# Altium schematic symbol library DAQ.SchLib: 78 symbols (part 3 of 3)
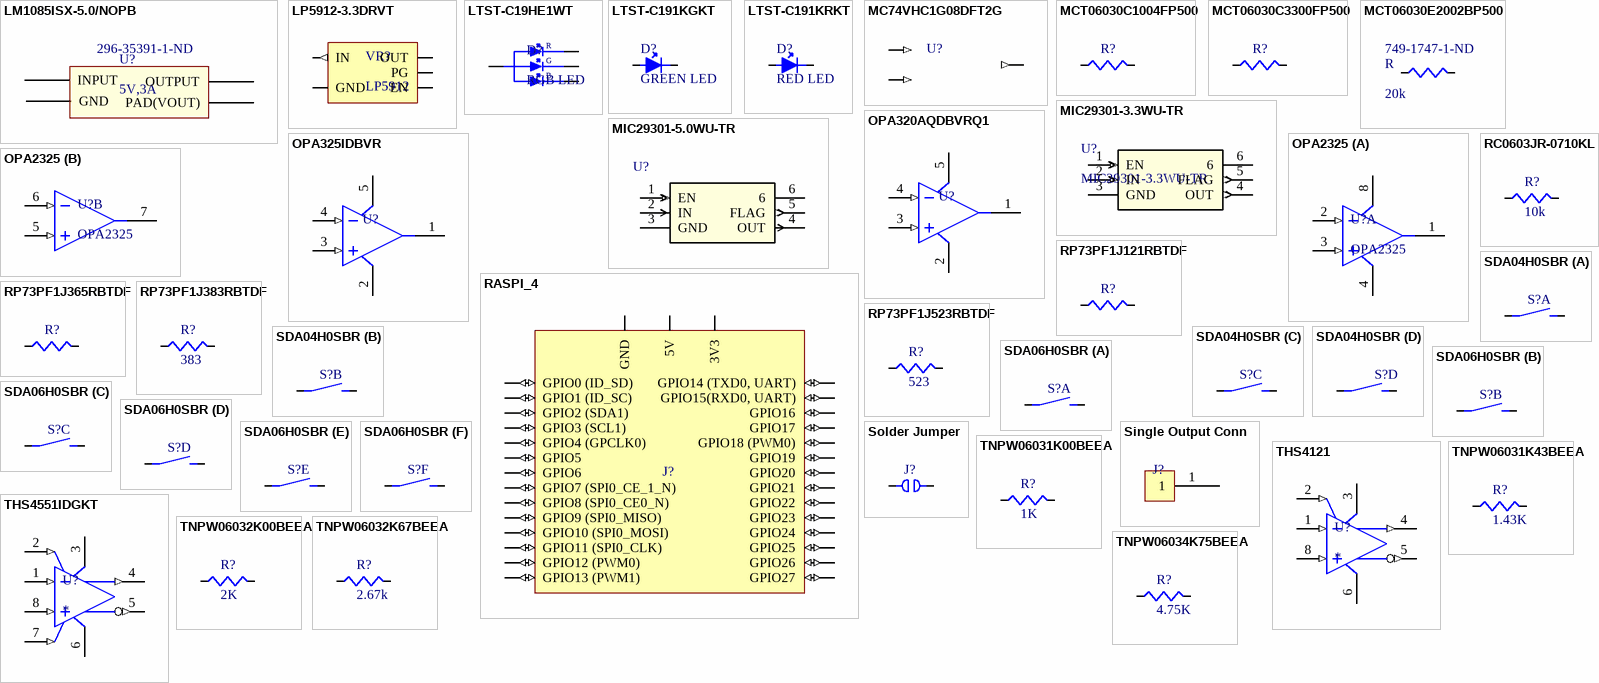
[diagram p4: symbols LM1085ISX-5.0/NOPB to TNPW06034K75BEEA]

## SDA04H0SBR
designator S?, comment DIP4  (value not drawn)
SWITCH DIP TAPE SEALED 4POS 24V; Manufacturer 1: ITT C&K; Manufacturer Part Number 1: SDA04H0SBR; Body Material: Polyphenylene; Mechanical Life: 1000Cycles; Actuator Material: Polyamide; Throw Configuration: SPST; Number of Positions: 4; Current Rating: 25mA; Max Current Rating: 100mA; Contact Resistance: 50mR; Actuator Type: Slide (Standard); Pitch: 0.1inch; Actuator Length: 0mm; Washable: Yes; Supplier 1: Digi-Key; Supplier Part Number 1: CKN9493CT-ND; Stock 1: 868; Pricing 1: 1=2.05000, 10=1.93600, 25=1.85680, 50=1.73820, 100=1.69880, 250=1.50124 (USD); RoHS: Yes; Mount: Surface Mount; Contact Material: Copper; Contact Plating: Gold; Min Operating Temperature: -40°C; Max Operating Temperature: 85°C; Max Voltage Rating (DC): 24V; Termination: Gull Wing; Package Quantity: 1; Packaging: Tape and Reel; Voltage Rating (DC): 24V; Electrical Life: 1000Cycles; Number of Circuits: 4; Orientation: Straight; Length: 0.476inch; Terminal Pitch: 2.54mm; Depth: 9.3mm; Radiation Hardening: No; REACH SVHC: No SVHC; Lead Free: Lead Free; ComponentLink1URL: https://datasheet.ciiva.com/2863/sda-17mar15-2863556.pdf?src-supplier=Digi-Key; ComponentLink1Description: https://datasheet.ciiva.com/2863/sda-17mar15-2863556.pdf?src-supplier=Digi-Key; ComponentLink2URL: https://datasheet.ciiva.com/2863/sda-17mar15-2863557.pdf?src-supplier=Digi-Key; ComponentLink2Description: https://datasheet.ciiva.com/2863/sda-17mar15-2863557.pdf?src-supplier=Digi-Key; ComponentLink3URL: https://datasheet.ciiva.com/2863/sda-17mar15-2863558.pdf?src-supplier=Digi-Key; ComponentLink3Description: https://datasheet.ciiva.com/2863/sda-17mar15-2863558.pdf?src-supplier=Digi-Key; ComponentLink4URL: https://datasheet.ciiva.com/22630/1707734-22630650.pdf?src-supplier=Element14; ComponentLink4Description: https://datasheet.ciiva.com/22630/1707734-22630650.pdf?src-supplier=Element14; ComponentLink5URL: https://datasheet.ciiva.com/16200/sda-13may-16200990.pdf?src-supplier=Onlinecomponents.com; ComponentLink5Description: https://datasheet.ciiva.com/16200/sda-13may-16200990.pdf?src-supplier=Onlinecomponents.com
footprint SDA04H0SB_dip_switch
part A pins: 1, 8
part B pins: 2, 7
part C pins: 3, 6
part D pins: 4, 5

## SDA06H0SBR
designator S?, comment DIP6  (value not drawn)
SWITCH DIP TAPE SEALED 6POS 24V; Manufacturer 1: ITT C&K; Manufacturer Part Number 1: SDA06H0SBR; Body Material: Polyphenylene; Mechanical Life: 1000Cycles; Actuator Material: Polyamide; Current Rating: 25mA; Throw Configuration: SPST; Max Current Rating: 100mA; Max Voltage Rating (DC): 50V; Contact Resistance: 50mR; Number of Positions: 6; Actuator Type: Slide (Standard); Pitch: 0.1inch; Actuator Length: 0mm; Washable: Yes; Supplier 1: Digi-Key; Supplier Part Number 1: CKN9495CT-ND; Stock 1: 4446; Pricing 1: 1=2.15000, 10=2.08600, 25=1.97880, 50=1.84960, 100=1.80670, 250=1.54856 (USD); RoHS: Yes; Mount: Surface Mount; Contact Material: Copper; Contact Plating: Gold; Min Operating Temperature: -40°C; Max Operating Temperature: 85°C; Packaging: Tape and Reel; Package Quantity: 1; Voltage Rating (DC): 24V; Termination: Gull Wing; Electrical Life: 1000Cycles; Life (Cycles): 1000Cycles; Orientation: Straight; Length: 0.676inch; Terminal Pitch: 2.54mm; Depth: 9.3mm; Radiation Hardening: No; Lead Free: Lead Free; ComponentLink1URL: https://datasheet.ciiva.com/2863/sda-17mar15-2863587.pdf?src-supplier=Digi-Key; ComponentLink1Description: https://datasheet.ciiva.com/2863/sda-17mar15-2863587.pdf?src-supplier=Digi-Key; ComponentLink2URL: https://datasheet.ciiva.com/2863/sda-17mar15-2863588.pdf?src-supplier=Digi-Key; ComponentLink2Description: https://datasheet.ciiva.com/2863/sda-17mar15-2863588.pdf?src-supplier=Digi-Key; ComponentLink3URL: https://datasheet.ciiva.com/2863/sda-17mar15-2863589.pdf?src-supplier=Digi-Key; ComponentLink3Description: https://datasheet.ciiva.com/2863/sda-17mar15-2863589.pdf?src-supplier=Digi-Key; ComponentLink4URL: https://datasheet.ciiva.com/16485/sda06h0sbr-16485446.pdf?src-supplier=Future+Electronics; ComponentLink4Description: https://datasheet.ciiva.com/16485/sda06h0sbr-16485446.pdf?src-supplier=Future+Electronics; ComponentLink5URL: https://datasheet.ciiva.com/16200/sda-13may-16200985.pdf?src-supplier=Onlinecomponents.com; ComponentLink5Description: https://datasheet.ciiva.com/16200/sda-13may-16200985.pdf?src-supplier=Onlinecomponents.com; ComponentLink6URL: https://datasheet.ciiva.com/18150/getdatasheetpartid-712276-18150955.pdf?src-supplier=Verical; ComponentLink6Description: https://datasheet.ciiva.com/18150/getdatasheetpartid-712276-18150955.pdf?src-supplier=Verical
part A pins: 1, 2
part B pins: 3, 4
part C pins: 5, 6
part D pins: 7, 8
part E pins: 9, 10
part F pins: 11, 12

## Single Output Conn
designator J?  (value not drawn)
footprint HEADERPINS_1x1
pins: 1

## Solder Jumper
designator J?  (value not drawn)
Simple Jumper
footprint SolderJumper
pins: 1, 2

## THS4121
designator U?
IC OPAMP DIFF 1 CIRCUIT 8MSOP; Manufacturer 1: Texas Instruments; Manufacturer Part Number 1: THS4121IDGNR; Number of Channels: 1; Slew Rate: 220V/µs; -3db Bandwidth: 150MHz; Output Current per Channel: 65mA; Gain Bandwidth Product: 135MHz; Input Bias Current: 1uA; Input Offset Voltage (Vos): 50uV; Operating Supply Current: 1.35mA; Max I/O Voltage: 8mV; Max Supply Voltage: 3.5V; Min Supply Voltage: 3V; Voltage Gain: 66dB; Power Supply Rejection Ratio (PSRR): 68dB; Power Dissipation: 1.71W; Common Mode Rejection Ratio: 64dB; Max Input Voltage: -100mV; Nominal Supply Current: 13.5mA; Input Resistance: 820MR; Operating Supply Voltage: 3.3V; Dual Supply Voltage: 1.65V; Min Dual Supply Voltage: 1.5V; Max Dual Supply Voltage: 1.75V; Settling Time: 60ns; Mount: Surface Mount; Case/Package: VSSOP; Number of Pins: 8; Min Operating Temperature: -40°C; Max Operating Temperature: 125°C; Packaging: Cut Tape; Number of Circuits: 1; Number of Amplifiers: 1; Bandwidth: 135MHz; REACH SVHC: No SVHC; Lead Free: Lead Free; ComponentLink1URL: http://www.ti.com/lit/ds/symlink/ths4551.pdf?src-supplier=Digi-Key; ComponentLink1Description: http://www.ti.com/lit/ds/symlink/ths4551.pdf?src-supplier=Digi-Key; ComponentLink2URL: http://www.ti.com/general/docs/lit/getliterature.tsp?genericPartNumber=THS4551&fileType=pdf&src-supplier=Farnell; ComponentLink2Description: http://www.ti.com/general/docs/lit/getliterature.tsp?genericPartNumber=THS4551&fileType=pdf&src-supplier=Farnell; ComponentLink3URL: http://www.farnell.com/datasheets/2148327.pdf?src-supplier=Element14; ComponentLink3Description: http://www.farnell.com/datasheets/2148327.pdf?src-supplier=Element14; ComponentLink4URL: https://octopart.com/click/track?ai=2118&ct=datasheets&sig=0013830&at=physicalpart&sid=370&ppid=71776714&hlid=24961842&src-supplier=TI+store; ComponentLink4Description: https://octopart.com/click/track?ai=2118&ct=datasheets&sig=0013830&at=physicalpart&sid=370&ppid=71776714&hlid=24961842&src-supplier=TI+store; ComponentLink5URL: http://sigma.octopart.com/49250154/technical_drawing/Texas-Instruments-THS4551IDGKT.pdf?src-supplier=TI+store; ComponentLink5Description: http://sigma.octopart.com/49250154/technical_drawing/Texas-Instruments-THS4551IDGKT.pdf?src-supplier=TI+store; ComponentLink6URL: http://datasheet.octopart.com/THS4551IDGKT-Texas-Instruments-datasheet-78835010.pdf?src-supplier=Element14; ComponentLink6Description: http://datasheet.octopart.com/THS4551IDGKT-Texas-Instruments-datasheet-78835010.pdf?src-supplier=Element14; ComponentLink7URL: http://datasheet.octopart.com/THS4551IDGKT-Texas-Instruments-datasheet-67294894.pdf?src-supplier=Newark; ComponentLink7Description: http://datasheet.octopart.com/THS4551IDGKT-Texas-Instruments-datasheet-67294894.pdf?src-supplier=Newark; RoHS: No; ComponentLink8URL: https://www.te.com/commerce/DocumentDelivery/DDEController?Action=srchrtrv&DocNm=1773204-3&DocType=DS&DocLang=English&src-supplier=Digi-Key; ComponentLink8Description: https://www.te.com/commerce/DocumentDelivery/DDEController?Action=srchrtrv&DocNm=1773204-3&DocType=DS&DocLang=English&src-supplier=Digi-Key; ComponentLink9URL: https://www.te.com/commerce/DocumentDelivery/DDEController?Action=srchrtrv&amp;DocNm=1773204-3&amp;DocType=DS&amp;DocLang=English&src-supplier=Digi-Key; ComponentLink9Description: https://www.te.com/commerce/DocumentDelivery/DDEController?Action=srchrtrv&amp;DocNm=1773204-3&amp;DocType=DS&amp;DocLang=English&src-supplier=Digi-Key; Supplier 1: Digi-Key; Supplier Part Number 1: 296-13343-1-ND; Stock 1: 1273; Pricing 1: 1=5.39000, 10=4.83900, 25=4.57440, 100=3.76110, 250=3.37480, 500=3.25280, 1000=2.70389 (USD); Weight: 0.000861oz; Number of Elements: 1; Max Power Dissipation: 1.71W; Package Quantity: 1; Radiation Hardening: No; ComponentLink10URL: https://datasheet.ciiva.com/15128/getdatasheetpartid-115582-15128262.pdf?src-supplier=Verical; ComponentLink10Description: https://datasheet.ciiva.com/15128/getdatasheetpartid-115582-15128262.pdf?src-supplier=Verical; ComponentLink11URL: https://datasheet.ciiva.com/26847/ths4121idgnr-26847456.pdf?src-supplier=IIIC; ComponentLink11Description: https://datasheet.ciiva.com/26847/ths4121idgnr-26847456.pdf?src-supplier=IIIC; ComponentLink12URL: https://datasheet.ciiva.com/1800/ths4121-1800147.pdf?src-supplier=Digi-Key; ComponentLink12Description: https://datasheet.ciiva.com/1800/ths4121-1800147.pdf?src-supplier=Digi-Key; ComponentLink13URL: https://datasheet.ciiva.com/1800/ths4121-1800148.pdf?src-supplier=Digi-Key; ComponentLink13Description: https://datasheet.ciiva.com/1800/ths4121-1800148.pdf?src-supplier=Digi-Key; ComponentLink14URL: https://datasheet.ciiva.com/1800/ths4121-1800149.pdf?src-supplier=Digi-Key; ComponentLink14Description: https://datasheet.ciiva.com/1800/ths4121-1800149.pdf?src-supplier=Digi-Key; ComponentLink15URL: https://datasheet.ciiva.com/2976/ths4120-2976327.pdf?src-supplier=Avnet; ComponentLink15Description: https://datasheet.ciiva.com/2976/ths4120-2976327.pdf?src-supplier=Avnet
footprint DGN8_1P89X1P57-L
pins: 1 VIN- (in) "Inverting amplifier input", 2 VOCM (in) "Common-mode voltage input", 3 VS+ (power) "Amplifier positive power-supply input", 4 VOUT+ (out) "Noninverting amplifier output", 5 VOUT- (out) "Inverting amplifier output", 6 VS- (power) "Amplifier negative power-supply input. Note that VS- is tied together on multi-channel devices.", 8 VIN+ (in) "Noninverting amplifier input"

## THS4551IDGKT
designator U?
Low Noise, Precision, 150MHz, Fully Differential Amplifier 8-VSSOP -40 to 125; Manufacturer 1: Texas Instruments; Manufacturer Part Number 1: THS4551IDGKT; Number of Channels: 1; Slew Rate: 220V/µs; Output Current per Channel: 65mA; Gain Bandwidth Product: 135MHz; Input Bias Current: 1uA; Input Offset Voltage (Vos): 50uV; Operating Supply Current: 1.35mA; Supplier 1: Digi-Key; Supplier Part Number 1: 296-44771-1-ND; Stock 1: 3028; Pricing 1: 1=3.84000, 10=3.44900, 100=2.82600 (USD); Mount: Surface Mount; Case/Package: VSSOP; Number of Pins: 8; Min Operating Temperature: -40°C; Max Operating Temperature: 125°C; -3db Bandwidth: 150MHz; Packaging: Cut Tape; Number of Circuits: 1; Number of Amplifiers: 1; Bandwidth: 135MHz; REACH SVHC: No SVHC; Lead Free: Lead Free; ComponentLink1URL: http://www.ti.com/lit/ds/symlink/ths4551.pdf?src-supplier=Digi-Key; ComponentLink1Description: http://www.ti.com/lit/ds/symlink/ths4551.pdf?src-supplier=Digi-Key; ComponentLink2URL: http://www.ti.com/general/docs/lit/getliterature.tsp?genericPartNumber=THS4551&fileType=pdf&src-supplier=Farnell; ComponentLink2Description: http://www.ti.com/general/docs/lit/getliterature.tsp?genericPartNumber=THS4551&fileType=pdf&src-supplier=Farnell; ComponentLink3URL: http://www.farnell.com/datasheets/2148327.pdf?src-supplier=Element14; ComponentLink3Description: http://www.farnell.com/datasheets/2148327.pdf?src-supplier=Element14; ComponentLink4URL: https://octopart.com/click/track?ai=2118&ct=datasheets&sig=0013830&at=physicalpart&sid=370&ppid=71776714&hlid=24961842&src-supplier=TI+store; ComponentLink4Description: https://octopart.com/click/track?ai=2118&ct=datasheets&sig=0013830&at=physicalpart&sid=370&ppid=71776714&hlid=24961842&src-supplier=TI+store; ComponentLink5URL: http://sigma.octopart.com/49250154/technical_drawing/Texas-Instruments-THS4551IDGKT.pdf?src-supplier=TI+store; ComponentLink5Description: http://sigma.octopart.com/49250154/technical_drawing/Texas-Instruments-THS4551IDGKT.pdf?src-supplier=TI+store; ComponentLink6URL: http://datasheet.octopart.com/THS4551IDGKT-Texas-Instruments-datasheet-78835010.pdf?src-supplier=Element14; ComponentLink6Description: http://datasheet.octopart.com/THS4551IDGKT-Texas-Instruments-datasheet-78835010.pdf?src-supplier=Element14; ComponentLink7URL: http://datasheet.octopart.com/THS4551IDGKT-Texas-Instruments-datasheet-67294894.pdf?src-supplier=Newark; ComponentLink7Description: http://datasheet.octopart.com/THS4551IDGKT-Texas-Instruments-datasheet-67294894.pdf?src-supplier=Newark; RoHS: No; ComponentLink8URL: https://www.te.com/commerce/DocumentDelivery/DDEController?Action=srchrtrv&DocNm=1773204-3&DocType=DS&DocLang=English&src-supplier=Digi-Key; ComponentLink8Description: https://www.te.com/commerce/DocumentDelivery/DDEController?Action=srchrtrv&DocNm=1773204-3&DocType=DS&DocLang=English&src-supplier=Digi-Key; ComponentLink9URL: https://www.te.com/commerce/DocumentDelivery/DDEController?Action=srchrtrv&amp;DocNm=1773204-3&amp;DocType=DS&amp;DocLang=English&src-supplier=Digi-Key; ComponentLink9Description: https://www.te.com/commerce/DocumentDelivery/DDEController?Action=srchrtrv&amp;DocNm=1773204-3&amp;DocType=DS&amp;DocLang=English&src-supplier=Digi-Key
footprint 8-VSSOP-THS4551
pins: 1 VIN- (in) "Inverting amplifier input", 2 VOCM (in) "Common-mode voltage input", 3 VS+ (power) "Amplifier positive power-supply input", 4 VOUT+ (out) "Noninverting amplifier output", 5 VOUT- (out) "Inverting amplifier output", 6 VS- (power) "Amplifier negative power-supply input. Note that VS- is tied together on multi-channel devices.", 7 ~{PD} (in) "Power down. P\D\ = logic low puts device into low-power mode. P\D\ = logic high or open for normal operation.", 8 VIN+ (in) "Noninverting amplifier input"

## TNPW06031K00BEEA
designator R?, comment 1K
RES 1K OHM 0.1% 1/8W 0603; Manufacturer 1: Vishay Dale; Manufacturer Part Number 1: TNPW06031K00BEEA; Tolerance: 1%; Resistance: 1kR; Temperature Coefficient: 25ppm/°C; Power Rating: 100mW; Voltage Rating: 75V; Supplier 1: Digi-Key; Supplier Part Number 1: TNP1.00KAACT-ND; Stock 1: 92047; Pricing 1: 1=0.65000, 10=0.46200, 100=0.24020, 1000=0.12936, 2500=0.12760 (USD); RoHS: Yes; Mount: Surface Mount; Case/Package: 0603; Weight: 7.1E-05oz; Contact Plating: Tin; Case Code (Metric): 1608; Case Code (Imperial): 0603; Min Operating Temperature: -55°C; Max Operating Temperature: 125°C; Composition: Thin Film; Packaging: Tape and Reel; Package Quantity: 1; Number of Terminations: 2; Termination: SMD/SMT; Military Standard: Not; Max Power Dissipation: 100mW; Voltage Rating (DC): 75V; Features: Moisture Resistant,Automotive AEC-Q200,Anti-Sulfur; Length: 1.6mm; Height: 0.45mm; Width: 0.033inch; Depth: 0.85mm; Radiation Hardening: No; REACH SVHC: Unknown; Lead Free: Lead Free; ComponentLink1URL: https://datasheet.ciiva.com/2528/tnpw-e3-2528472.pdf?src-supplier=Digi-Key; ComponentLink1Description: https://datasheet.ciiva.com/2528/tnpw-e3-2528472.pdf?src-supplier=Digi-Key; ComponentLink2URL: https://datasheet.ciiva.com/2528/tnpw-e3-2528473.pdf?src-supplier=Digi-Key; ComponentLink2Description: https://datasheet.ciiva.com/2528/tnpw-e3-2528473.pdf?src-supplier=Digi-Key; ComponentLink3URL: https://datasheet.ciiva.com/9112/tnpw-e3-9112138.pdf?src-supplier=Avnet; ComponentLink3Description: https://datasheet.ciiva.com/9112/tnpw-e3-9112138.pdf?src-supplier=Avnet; ComponentLink4URL: https://datasheet.ciiva.com/16391/tnpw-e3-16391675.pdf?src-supplier=Future+Electronics; ComponentLink4Description: https://datasheet.ciiva.com/16391/tnpw-e3-16391675.pdf?src-supplier=Future+Electronics; ComponentLink5URL: https://datasheet.ciiva.com/9112/tnpw-e3-9112141.pdf?src-supplier=Avnet; ComponentLink5Description: https://datasheet.ciiva.com/9112/tnpw-e3-9112141.pdf?src-supplier=Avnet; ComponentLink6URL: https://datasheet.ciiva.com/16782/70201627-16782047.pdf?src-supplier=Allied+Electronics; ComponentLink6Description: https://datasheet.ciiva.com/16782/70201627-16782047.pdf?src-supplier=Allied+Electronics
footprint R0603
pins: 1, 2

## TNPW06031K43BEEA
designator R?, comment 1.43K
Res Thin Film 0603 1.43K Ohm 0.1% 1/10W ±25ppm/°C Molded SMD SMD Paper T/R; Manufacturer 1: Vishay Dale; Manufacturer Part Number 1: TNPW06031K43BEEA; Resistance: 1.43kR; Power Rating: 100mW; Voltage Rating: 75V; Voltage Rating (DC): 50V; Supplier 1: Digi-Key; Supplier Part Number 1: TNPW06031K43BEEA-ND; Stock 1: 0; Pricing 1: 5000=0.11600 (USD); RoHS: Yes; Case/Package: 0603; Weight: 7.1E-05oz; Case Code (Metric): 1608; Case Code (Imperial): 0603; Contact Plating: Tin; Min Operating Temperature: -55°C; Max Operating Temperature: 125°C; Package Quantity: 5000; Packaging: Tape and Reel; Tolerance: 0.1%; Composition: Thin Film; Number of Terminations: 2; Termination: SMD/SMT; Max Power Dissipation: 100mW; Temperature Coefficient: 25ppm/°C; Features: Moisture Resistant,Automotive AEC-Q200,Anti-Sulfur; Length: 0.063inch; Height: 0.022inch; Width: 0.033inch; Radiation Hardening: No; REACH SVHC: Unknown; ComponentLink1URL: https://datasheet.ciiva.com/2603/tnpw-e3-2603635.pdf?src-supplier=Digi-Key; ComponentLink1Description: https://datasheet.ciiva.com/2603/tnpw-e3-2603635.pdf?src-supplier=Digi-Key; ComponentLink2URL: https://datasheet.ciiva.com/9101/tnpw-e3-9101995.pdf?src-supplier=Avnet; ComponentLink2Description: https://datasheet.ciiva.com/9101/tnpw-e3-9101995.pdf?src-supplier=Avnet
footprint R0603
pins: 1, 2

## TNPW06032K00BEEA
designator R?, comment 2K
RES 2K OHM 0.1% 1/8W 0603; Manufacturer 1: Vishay Dale; Manufacturer Part Number 1: TNPW06032K00BEEA; Resistance: 2kR; Tolerance: 1%; Temperature Coefficient: 25ppm/°C; Power Rating: 100mW; Voltage Rating: 75V; Voltage Rating (DC): 50V; Supplier 1: Digi-Key; Supplier Part Number 1: TNP2.00KAACT-ND; Stock 1: 36426; Pricing 1: 1=0.65000, 10=0.46200, 100=0.24020, 1000=0.12936, 2500=0.12760 (USD); RoHS: Yes; Case/Package: 0603; Weight: 7.1E-05oz; Contact Plating: Tin; Case Code (Metric): 1608; Case Code (Imperial): 0603; Min Operating Temperature: -55°C; Max Operating Temperature: 125°C; Composition: Thin Film; Packaging: Tape and Reel; Package Quantity: 1; Number of Terminations: 2; Termination: SMD/SMT; Military Standard: Not; Max Power Dissipation: 100mW; Features: Moisture Resistant,Automotive AEC-Q200,Anti-Sulfur; Length: 1.6mm; Height: 0.45mm; Width: 0.033inch; Depth: 0.85mm; Radiation Hardening: No; REACH SVHC: Unknown; Lead Free: Lead Free; ComponentLink1URL: https://datasheet.ciiva.com/17202/tnpw-e3-17202951.pdf?src-supplier=Avnet+Europe; ComponentLink1Description: https://datasheet.ciiva.com/17202/tnpw-e3-17202951.pdf?src-supplier=Avnet+Europe; ComponentLink2URL: https://datasheet.ciiva.com/28621/1599293-28621623.pdf?src-supplier=Element14; ComponentLink2Description: https://datasheet.ciiva.com/28621/1599293-28621623.pdf?src-supplier=Element14; ComponentLink3URL: https://datasheet.ciiva.com/9094/tnpw-e3-9094713.pdf?src-supplier=Avnet; ComponentLink3Description: https://datasheet.ciiva.com/9094/tnpw-e3-9094713.pdf?src-supplier=Avnet; ComponentLink4URL: https://datasheet.ciiva.com/2483/tnpw-e3-2483322.pdf?src-supplier=Digi-Key; ComponentLink4Description: https://datasheet.ciiva.com/2483/tnpw-e3-2483322.pdf?src-supplier=Digi-Key; ComponentLink5URL: https://datasheet.ciiva.com/2483/tnpw-e3-2483323.pdf?src-supplier=Digi-Key; ComponentLink5Description: https://datasheet.ciiva.com/2483/tnpw-e3-2483323.pdf?src-supplier=Digi-Key; ComponentLink6URL: https://datasheet.ciiva.com/2483/tnpw-e3-2483324.pdf?src-supplier=Digi-Key; ComponentLink6Description: https://datasheet.ciiva.com/2483/tnpw-e3-2483324.pdf?src-supplier=Digi-Key
footprint R0603
pins: 1, 2

## TNPW06032K67BEEA
designator R?, comment 2.67k
RES SMD 2.67KOHM 0.1% 1/10W 0603; Manufacturer 1: Vishay Dale; Manufacturer Part Number 1: TNPW06032K67BEEA; Resistance: 2.67kR; Power Rating: 100mW; Voltage Rating: 75V; Temperature Coefficient: 25ppm/°C; Voltage Rating (DC): 50V; Supplier 1: Digi-Key; Supplier Part Number 1: 541-3645-1-ND; Stock 1: 10082; Pricing 1: 1=0.65000, 10=0.46200, 100=0.24020, 1000=0.12936, 2500=0.12760 (USD); RoHS: Yes; Case/Package: 0603; Case Code (Metric): 1608; Case Code (Imperial): 0603; Contact Plating: Tin; Min Operating Temperature: -55°C; Max Operating Temperature: 125°C; Packaging: Tape and Reel; Tolerance: 0.1%; Package Quantity: 5000; Composition: Thin Film; Number of Terminations: 2; Termination: SMD/SMT; Max Power Dissipation: 100mW; Features: Moisture Resistant,Automotive AEC-Q200,Anti-Sulfur; Length: 0.063inch; Height: 0.022inch; Width: 0.033inch; Radiation Hardening: No; REACH SVHC: Unknown; ComponentLink1URL: https://datasheet.ciiva.com/2603/tnpw-e3-2603660.pdf?src-supplier=Digi-Key; ComponentLink1Description: https://datasheet.ciiva.com/2603/tnpw-e3-2603660.pdf?src-supplier=Digi-Key; Supplier 2: Digi-Key; Supplier Part Number 2: P25.5KDBCT-ND
footprint R0603
pins: 1, 2

## TNPW06034K75BEEA
designator R?, comment 4.75K
Res Thin Film 0603 4.75K Ohm 0.1% 1/10W ±25ppm/°C Molded SMD SMD Paper T/R; Manufacturer 1: Vishay Dale; Manufacturer Part Number 1: TNPW06034K75BEEA; Resistance: 4.75kR; Power Rating: 100mW; Voltage Rating: 75V; Voltage Rating (DC): 50V; Supplier 1: Digi-Key; Supplier Part Number 1: TNP4.75KAACT-ND; Stock 1: 10015; Pricing 1: 1=0.65000, 10=0.46200, 100=0.24020, 1000=0.12936, 2500=0.12760 (USD); RoHS: Yes; Case/Package: 0603; Weight: 7.1E-05oz; Case Code (Metric): 1608; Case Code (Imperial): 0603; Contact Plating: Tin; Min Operating Temperature: -55°C; Max Operating Temperature: 125°C; Tolerance: 0.1%; Packaging: Tape and Reel; Package Quantity: 1; Composition: Thin Film; Number of Terminations: 2; Termination: SMD/SMT; Military Standard: Not; Temperature Coefficient: 25ppm/°C; Max Power Dissipation: 100mW; Features: Moisture Resistant,Automotive AEC-Q200,Anti-Sulfur; Length: 1.6mm; Height: 0.45mm; Width: 0.033inch; Depth: 0.85mm; Radiation Hardening: No; REACH SVHC: Unknown; Lead Free: Lead Free; ComponentLink1URL: https://datasheet.ciiva.com/9070/tnpw-e3-9070279.pdf?src-supplier=Avnet; ComponentLink1Description: https://datasheet.ciiva.com/9070/tnpw-e3-9070279.pdf?src-supplier=Avnet; ComponentLink2URL: https://datasheet.ciiva.com/2483/tnpw-e3-2483244.pdf?src-supplier=Digi-Key; ComponentLink2Description: https://datasheet.ciiva.com/2483/tnpw-e3-2483244.pdf?src-supplier=Digi-Key; ComponentLink3URL: https://datasheet.ciiva.com/7743/tnpw-e3-7743820.pdf?src-supplier=Element14; ComponentLink3Description: https://datasheet.ciiva.com/7743/tnpw-e3-7743820.pdf?src-supplier=Element14; ComponentLink4URL: https://datasheet.ciiva.com/2483/tnpw-e3-2483245.pdf?src-supplier=Digi-Key; ComponentLink4Description: https://datasheet.ciiva.com/2483/tnpw-e3-2483245.pdf?src-supplier=Digi-Key; ComponentLink5URL: https://datasheet.ciiva.com/2483/tnpw-e3-2483246.pdf?src-supplier=Digi-Key; ComponentLink5Description: https://datasheet.ciiva.com/2483/tnpw-e3-2483246.pdf?src-supplier=Digi-Key
footprint R0603
pins: 1, 2

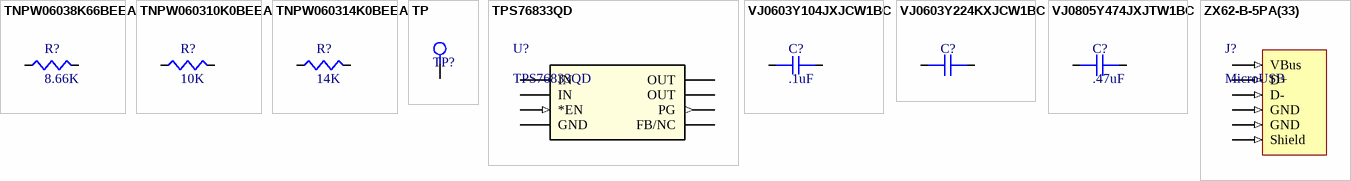
[diagram p2: symbols TNPW06038K66BEEA to ZX62-B-5PA(33)]

## TNPW06038K66BEEA
designator R?, comment 8.66K
RES 8.66K OHM 1/10W 0.1% 0603; Manufacturer 1: Vishay Dale; Manufacturer Part Number 1: TNPW06038K66BEEA; Resistance: 8.66kR; Power Rating: 100mW; Voltage Rating: 75V; Temperature Coefficient: 25ppm/°C; Voltage Rating (DC): 50V; Supplier 1: Digi-Key; Supplier Part Number 1: 541-2053-1-ND; Stock 1: 5343; Pricing 1: 1=0.65000, 10=0.46200, 100=0.24020, 1000=0.12936, 2500=0.12760 (USD); RoHS: Yes; Mount: Surface Mount; Case/Package: 0603; Weight: 7.1E-05oz; Case Code (Metric): 1608; Case Code (Imperial): 0603; Contact Plating: Tin; Min Operating Temperature: -55°C; Max Operating Temperature: 125°C; Tolerance: 0.1%; Package Quantity: 5000; Packaging: Tape and Reel; Composition: Thin Film; Number of Terminations: 2; Termination: SMD/SMT; Military Standard: Not; Max Power Dissipation: 100mW; Features: Automotive AEC-Q200,Moisture Resistant,Anti-Sulfur; Length: 1.6mm; Height: 0.022inch; Width: 0.033inch; Depth: 0.85mm; Radiation Hardening: No; REACH SVHC: Unknown; Lead Free: Lead Free; ComponentLink1URL: https://datasheet.ciiva.com/9055/tnpw-e3-9055061.pdf?src-supplier=Avnet; ComponentLink1Description: https://datasheet.ciiva.com/9055/tnpw-e3-9055061.pdf?src-supplier=Avnet; ComponentLink2URL: https://datasheet.ciiva.com/41816/tnpw-e3-41816622.pdf?src-supplier=Digi-Key; ComponentLink2Description: https://datasheet.ciiva.com/41816/tnpw-e3-41816622.pdf?src-supplier=Digi-Key; ComponentLink3URL: https://datasheet.ciiva.com/2603/tnpw-e3-2603713.pdf?src-supplier=Digi-Key; ComponentLink3Description: https://datasheet.ciiva.com/2603/tnpw-e3-2603713.pdf?src-supplier=Digi-Key
footprint R0603
pins: 1, 2

## TNPW060310K0BEEA
designator R?, comment 10K
RES 10K OHM 0.1% 1/8W 0603; Manufacturer 1: Vishay Dale; Manufacturer Part Number 1: TNPW060310K0BEEA; Resistance: 10kR; Tolerance: 1%; Temperature Coefficient: 25ppm/°C; Power Rating: 100mW; Voltage Rating: 75V; Supplier 1: Digi-Key; Supplier Part Number 1: TNP10.0KAACT-ND; Stock 1: 296181; Pricing 1: 1=0.65000, 10=0.46200, 100=0.24020, 1000=0.12936, 2500=0.12760 (USD); RoHS: Yes; Mount: Surface Mount; Case/Package: 0603; Weight: 7.1E-05oz; Contact Plating: Tin; Case Code (Metric): 1608; Case Code (Imperial): 0603; Min Operating Temperature: -55°C; Max Operating Temperature: 125°C; Composition: Thin Film; Packaging: Tape and Reel; Package Quantity: 1; Number of Terminations: 2; Termination: SMD/SMT; Military Standard: Not; Max Power Dissipation: 100mW; Features: Moisture Resistant,Automotive AEC-Q200,Anti-Sulfur; Length: 1.6mm; Height: 0.022inch; Width: 0.033inch; Depth: 0.85mm; Radiation Hardening: No; REACH SVHC: Unknown; ComponentLink1URL: https://datasheet.ciiva.com/2483/tnpw-e3-2483253.pdf?src-supplier=Digi-Key; ComponentLink1Description: https://datasheet.ciiva.com/2483/tnpw-e3-2483253.pdf?src-supplier=Digi-Key; ComponentLink2URL: https://datasheet.ciiva.com/17190/tnpw-e3-17190917.pdf?src-supplier=Avnet+Europe; ComponentLink2Description: https://datasheet.ciiva.com/17190/tnpw-e3-17190917.pdf?src-supplier=Avnet+Europe; ComponentLink3URL: https://datasheet.ciiva.com/2483/tnpw-e3-2483254.pdf?src-supplier=Digi-Key; ComponentLink3Description: https://datasheet.ciiva.com/2483/tnpw-e3-2483254.pdf?src-supplier=Digi-Key; ComponentLink4URL: https://datasheet.ciiva.com/2483/tnpw-e3-2483255.pdf?src-supplier=Digi-Key; ComponentLink4Description: https://datasheet.ciiva.com/2483/tnpw-e3-2483255.pdf?src-supplier=Digi-Key; ComponentLink5URL: https://datasheet.ciiva.com/16335/tnpw-e3-16335132.pdf?src-supplier=Future+Electronics; ComponentLink5Description: https://datasheet.ciiva.com/16335/tnpw-e3-16335132.pdf?src-supplier=Future+Electronics; ComponentLink6URL: https://datasheet.ciiva.com/28589/1912606-28589004.pdf?src-supplier=Element14; ComponentLink6Description: https://datasheet.ciiva.com/28589/1912606-28589004.pdf?src-supplier=Element14; ComponentLink7URL: https://datasheet.ciiva.com/7792/tnpw-e3-7792477.pdf?src-supplier=Element14; ComponentLink7Description: https://datasheet.ciiva.com/7792/tnpw-e3-7792477.pdf?src-supplier=Element14; ComponentLink8URL: https://datasheet.ciiva.com/9050/tnpw-e3-9050974.pdf?src-supplier=Avnet; ComponentLink8Description: https://datasheet.ciiva.com/9050/tnpw-e3-9050974.pdf?src-supplier=Avnet
footprint R0603
pins: 1, 2

## TNPW060314K0BEEA
designator R?, comment 14K
Res Thin Film 0603 14K Ohm 0.1% 1/10W ±25ppm/°C Molded SMD SMD Paper T/R; Manufacturer 1: Vishay Dale; Manufacturer Part Number 1: TNPW060314K0BEEA; Resistance: 14kR; Power Rating: 100mW; Voltage Rating: 75V; Voltage Rating (DC): 50V; Supplier 1: Digi-Key; Supplier Part Number 1: TNP14.0KAACT-ND; Stock 1: 9106; Pricing 1: 1=0.65000, 10=0.46200, 100=0.24020, 1000=0.12936, 2500=0.12760 (USD); RoHS: Yes; Mount: Surface Mount; Case/Package: 0603; Weight: 7.1E-05oz; Case Code (Metric): 1608; Case Code (Imperial): 0603; Contact Plating: Tin; Min Operating Temperature: -55°C; Max Operating Temperature: 125°C; Package Quantity: 1; Tolerance: 0.1%; Packaging: Tape and Reel; Composition: Thin Film; Number of Terminations: 2; Termination: SMD/SMT; Military Standard: Not; Max Power Dissipation: 100mW; Temperature Coefficient: 25ppm/°C; Features: Moisture Resistant,Automotive AEC-Q200,Anti-Sulfur; Length: 1.6mm; Height: 0.45mm; Width: 0.033inch; Depth: 0.85mm; Radiation Hardening: No; REACH SVHC: Unknown; Lead Free: Lead Free; ComponentLink1URL: https://datasheet.ciiva.com/2483/tnpw-e3-2483298.pdf?src-supplier=Digi-Key; ComponentLink1Description: https://datasheet.ciiva.com/2483/tnpw-e3-2483298.pdf?src-supplier=Digi-Key; ComponentLink2URL: https://datasheet.ciiva.com/2483/tnpw-e3-2483299.pdf?src-supplier=Digi-Key; ComponentLink2Description: https://datasheet.ciiva.com/2483/tnpw-e3-2483299.pdf?src-supplier=Digi-Key; ComponentLink3URL: https://datasheet.ciiva.com/2483/tnpw-e3-2483300.pdf?src-supplier=Digi-Key; ComponentLink3Description: https://datasheet.ciiva.com/2483/tnpw-e3-2483300.pdf?src-supplier=Digi-Key; ComponentLink4URL: https://datasheet.ciiva.com/16391/tnpw-e3-16391669.pdf?src-supplier=Future+Electronics; ComponentLink4Description: https://datasheet.ciiva.com/16391/tnpw-e3-16391669.pdf?src-supplier=Future+Electronics; ComponentLink5URL: https://datasheet.ciiva.com/7743/tnpw-e3-7743801.pdf?src-supplier=Element14; ComponentLink5Description: https://datasheet.ciiva.com/7743/tnpw-e3-7743801.pdf?src-supplier=Element14; ComponentLink6URL: https://datasheet.ciiva.com/9041/tnpw-e3-9041772.pdf?src-supplier=Avnet; ComponentLink6Description: https://datasheet.ciiva.com/9041/tnpw-e3-9041772.pdf?src-supplier=Avnet
footprint R0603
pins: 1, 2

## TP
designator TP?
5029 SMD 0805 TP; Supplier 1: Digi-Key; Supplier Part Number 1: 36-5029CT-ND
footprint TP_5029
pins: 1

## TPS76833QD
designator U?
3.3V Linear Voltage Regulator IC 1 Output 1A 8-SOIC; Vendor: Texas Instruments; Built_By: EMA_UL_Team; SourceLibrary: TI_2011-12-14_2; Manufacturer_Part_Number: TPS76833QD; Copyright: Copyright (C) 2018 Accelerated Designs. All rights reserved; RefDes: RefDes; Type: DEV
footprint D8_TEX
pins: 1 GND (power), 2 *EN (in), 3 IN (power), 4 IN (power), 5 OUT (power), 6 OUT (power), 7 FB/NC, 8 PG (out)

## VJ0603Y104JXJCW1BC
designator C?, comment .1uF
0603 0.1 uF 16 V ±5 % Tolerance X7R SMT Multilayer Ceramic Chip Capacitor; Manufacturer 1: Vishay Vitramon; Manufacturer Part Number 1: VJ0603Y104JXJCW1BC; Dielectric Material: Tantalum; Tolerance: 5%; Capacitance: 100nF; Voltage Rating: 16V; Supplier 1: Digi-Key; Supplier Part Number 1: 720-1685-1-ND; Stock 1: 6936; Pricing 1: 1=0.20000, 10=0.13400, 100=0.06780, 500=0.04636, 1000=0.04101 (USD); RoHS: Yes; Mount: Surface Mount; Case/Package: 0603; Number of Pins: 2; Case Code (Imperial): 0603; Case Code (Metric): 1608; Contact Plating: Tin,Matte; Min Operating Temperature: -55°C; Max Operating Temperature: 125°C; Packaging: Tape and Reel; Voltage Rating (DC): 16V; Package Quantity: 4000; Dielectric: X7R; Termination: SMD/SMT; Length: 1.6mm; Height: 0.95mm; Width: 0.8mm; Depth: 0.8mm; Lead Free: Lead Free; ComponentLink1URL: https://datasheet.ciiva.com/5424/vjw1bcbascomseries-223529-5424533.pdf?src-supplier=Mouser; ComponentLink1Description: https://datasheet.ciiva.com/5424/vjw1bcbascomseries-223529-5424533.pdf?src-supplier=Mouser; ComponentLink2URL: https://datasheet.ciiva.com/11491/vjw1bcbascomseries-11491768.pdf?src-supplier=Avnet; ComponentLink2Description: https://datasheet.ciiva.com/11491/vjw1bcbascomseries-11491768.pdf?src-supplier=Avnet; ComponentLink3URL: https://datasheet.ciiva.com/16215/vjw1bcbascomseries-16215161.pdf?src-supplier=Future+Electronics; ComponentLink3Description: https://datasheet.ciiva.com/16215/vjw1bcbascomseries-16215161.pdf?src-supplier=Future+Electronics
footprint C0603
pins: 1, 2

## VJ0603Y224KXJCW1BC
designator C?, comment 2.2uF  (value not drawn)
Cap Ceramic 0.22uF 16V X7R 10% SMD 0603 125C Paper T/R; Manufacturer 1: Vishay Vitramon; Manufacturer Part Number 1: VJ0603Y224KXJCW1BC; Dielectric Material: Tantalum; Capacitance: 220nF; Supplier 1: Digi-Key; Supplier Part Number 1: 720-1853-1-ND; Stock 1: 890490; Pricing 1: 1=0.10000, 10=0.07000, 100=0.03100, 500=0.02214, 1000=0.01739 (USD); RoHS: Yes; Mount: Surface Mount; Case/Package: 0603; Min Operating Temperature: -55°C; Max Operating Temperature: 125°C; Tolerance: 10%; Packaging: Tape and Reel; Dielectric: X7R; Voltage Rating (DC): 16V; Length: 1.6mm; Depth: 0.8mm; Lead Free: Lead Free; ComponentLink1URL: https://datasheet.ciiva.com/11490/vjw1bcbascomseries-11490982.pdf?src-supplier=Avnet; ComponentLink1Description: https://datasheet.ciiva.com/11490/vjw1bcbascomseries-11490982.pdf?src-supplier=Avnet
footprint C0603
pins: 1, 2

## VJ0805Y474JXJTW1BC
designator C?, comment .47uF
Multilayer Ceramic Capacitors MLCC - SMD/SMT 0805 0.47uF 16volts X7R 5%; Manufacturer 1: Vishay Vitramon; Manufacturer Part Number 1: VJ0805Y474JXJTW1BC; Dielectric Material: Tantalum; Voltage Rating (DC): 16V; Capacitance: 470nF; Supplier 1: Digi-Key; Supplier Part Number 1: 720-1774-1-ND; Stock 1: 1897; Pricing 1: 1=0.39000, 10=0.27000, 100=0.16180, 500=0.12132, 1000=0.10245 (USD); RoHS: Yes; Mount: Surface Mount; Case/Package: 0805; Case Code (Imperial): 0805; Case Code (Metric): 2012; Min Operating Temperature: -55°C; Max Operating Temperature: 125°C; Tolerance: 5%; Packaging: Tape and Reel; Package Quantity: 3000; Dielectric: X7R; Termination: SMD/SMT; Length: 2mm; Height: 1.45mm; Width: 1.25mm; Depth: 1.25mm; Lead Free: Lead Free; ComponentLink1URL: https://datasheet.ciiva.com/11490/vjw1bcbascomseries-11490678.pdf?src-supplier=Avnet; ComponentLink1Description: https://datasheet.ciiva.com/11490/vjw1bcbascomseries-11490678.pdf?src-supplier=Avnet; ComponentLink2URL: https://datasheet.ciiva.com/5427/vjw1bcbascomseries-223529-5427159.pdf?src-supplier=Mouser; ComponentLink2Description: https://datasheet.ciiva.com/5427/vjw1bcbascomseries-223529-5427159.pdf?src-supplier=Mouser
footprint C0805
pins: 1, 2

## ZX62-B-5PA(33)
designator J?, comment MicroUSB
HIROSE(HRS) - ZX62-B-5PA(33) - USB-Steckverbinder, Micro-USB Typ B, USB 2.0, Buchse, 5 -polig, Oberflächenmontage, Rechtwinklig; Supplier 1: Digi-Key; Supplier Part Number 1: H125270CT-ND
footprint HRS_ZX62-B-5PA(33)
pins: 1 VBus (in), 2 D+ (in), 3 D- (in), 4 GND (in), 5 GND (in), 6 Shield (in)